# Altium footprint library Librairie_ctrl_lumiere.PcbLib: 11 footprints
Each footprint in its own frame and in the unit in brackets; x right, y up, seen from the top. Pads: shape width x height; smd on the part's side, far side on the other; paste and mask are expansions set on the pad; w line width, h text height; cw(c..) or ccw(c..) is an arc to the next point about the centre after c.
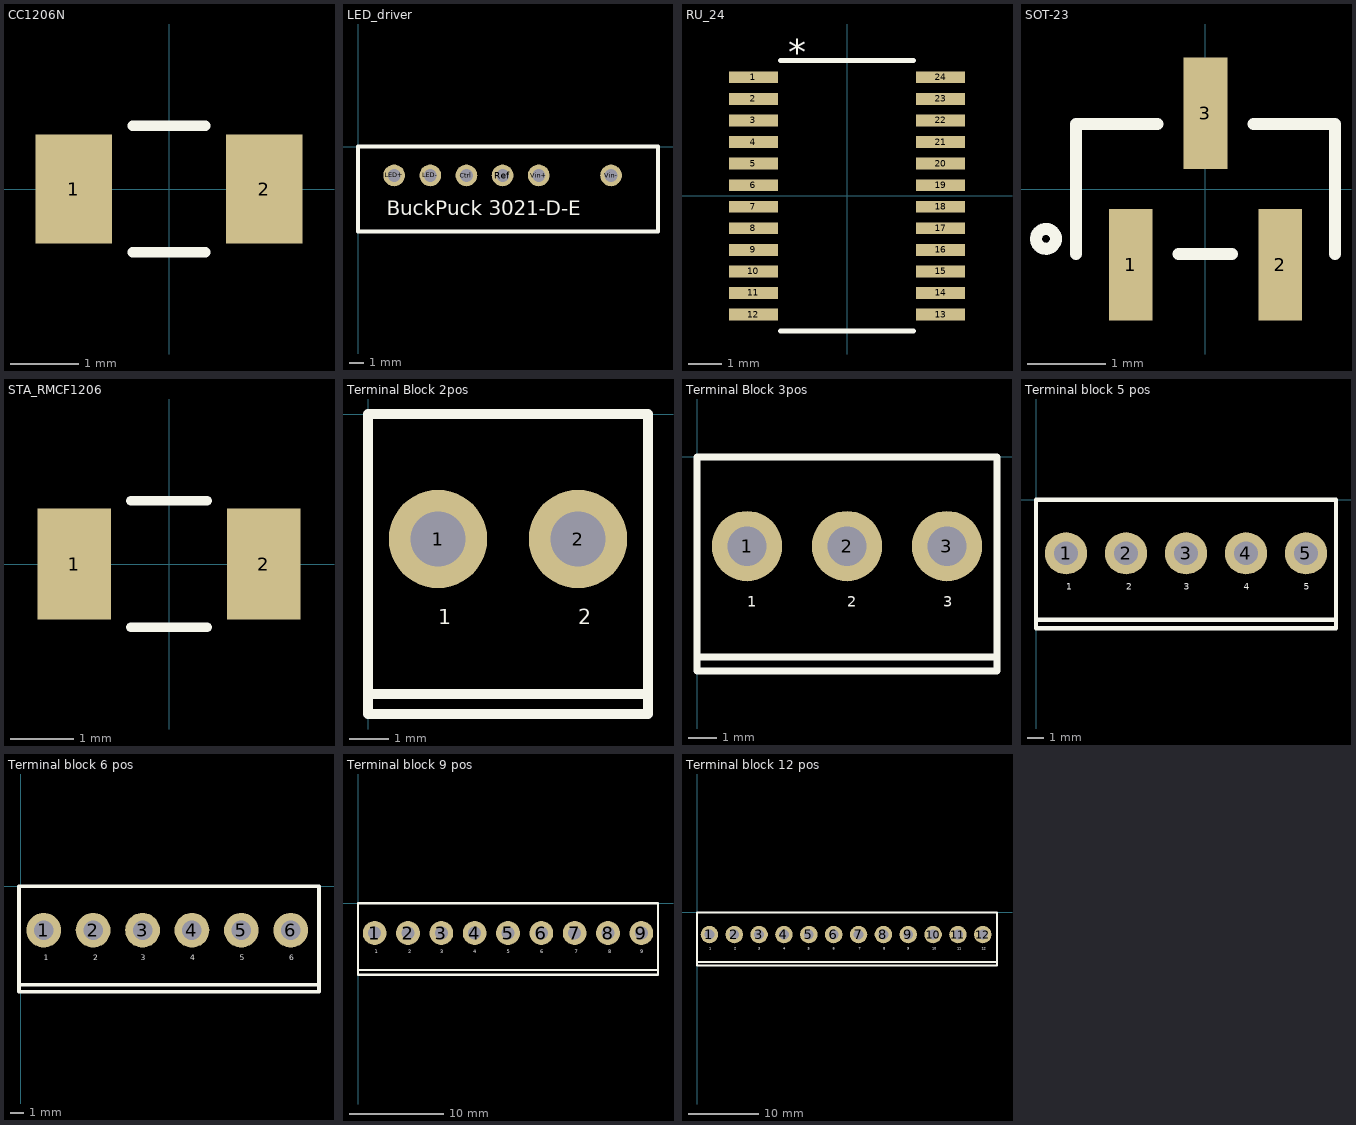
[diagram p0: the footprints below, top view; thin cyan lines are the x and y axes]

## CC1206N [mil]
pads (2):
  rect 44x63 smd paste+0 mask+0: 1(-55,0) 2(55,0)
Top Overlay:
  lines w6: -20.89,-36.5 20.89,-36.5 ; -20.89,36.5 20.89,36.5

## LED_driver [mil] "LED driver"
height 661.42
pads (6):
  round 60 hole 35: Ctrl(300,-80) LED+(100,-80) LED-(200,-80) Ref(400,-80) Vin+(500,-80) Vin-(700,-80)
Top Overlay:
  lines w10: 0,-235 830,-235 830,0 0,0 0,-235
  text "BuckPuck 3021-D-E" at 80,-190 h40

## RU_24 [mil]
pads (24):
  rect 58x14 smd: 1(-111,140.75) 2(-111,115.16) 3(-111,89.57) 4(-111,63.98) 5(-111,38.39) 6(-111,12.8) 7(-111,-12.8) 8(-111,-38.39) 9(-111,-63.98) 10(-111,-89.57) 11(-111,-115.16) 12(-111,-140.75) 13(111,-140.75) 14(111,-115.16) 15(111,-89.57) 16(111,-63.98) 17(111,-38.39) 18(111,-12.8) 19(111,12.8) 20(111,38.39) 21(111,63.98) 22(111,89.57) 23(111,115.16) 24(111,140.75)
Top Overlay:
  lines w6: -79,-160.5 79,-160.5 ; -79,160.5 79,160.5
  text "*" at -70,155 h31.25

## SOT-23 [mil]
pads (3):
  rect 22x56 smd: 1(-37.5,-38) 2(37.5,-38) 3(0,38)
Top Overlay:
  circle w6: c-80,-25 r5
  lines w6: -65,-32.5 -65,32.5 -24.1,32.5 ; -13.4,-32.5 13.4,-32.5 ; 24.1,32.5 65,32.5 65,-32.5

## STA_RMCF1206 [mil]
pads (2):
  rect 46x69 smd paste+0 mask+0: 1(-59,0) 2(59,0)
Top Overlay:
  lines w6: -23.89,-39.5 23.89,-39.5 ; -23.89,39.5 23.89,39.5
Mechanical 13:
  circle w0: c-54,0 r3

## Terminal Block 2pos [mm]
height 0.234
pads (2):
  round 2.5 hole 1.4: 1(1.778,-3.175) 2(5.334,-3.175)
Top Overlay:
  lines w0.254: 0,-7.112 7.112,-7.112 ; 0,-7.62 0,0 1.778,0 7.112,0 7.112,-7.62 0,-7.62
  text "1" at 1.778,-5.334 h0.38
  text "2" at 5.334,-5.334 h0.38

## Terminal Block 3pos [mm]
pads (3):
  round 2.5 hole 1.4: 1(1.778,-3.175) 2(5.334,-3.175) 3(8.89,-3.175)
Top Overlay:
  lines w0.254: 0,-7.112 10.668,-7.112 ; 0,-7.62 0,0 1.778,0 10.668,0 10.668,-7.62 0,-7.62
  text "1" at 1.778,-5.334 h0.38
  text "2" at 5.334,-5.334 h0.38
  text "3" at 8.763,-5.334 h0.38

## Terminal block 5 pos [mm]
pads (5):
  round 2.5 hole 1.4: 1(1.778,-3.175) 2(5.334,-3.175) 3(8.89,-3.175) 4(12.446,-3.175) 5(16.002,-3.175)
Top Overlay:
  lines w0.254: 0,-7.112 17.78,-7.112 ; 0,-7.62 0,0 1.778,0 17.78,0 17.78,-7.62 0,-7.62
  text "1" at 1.778,-5.334 h0.38
  text "2" at 5.334,-5.334 h0.38
  text "3" at 8.763,-5.334 h0.38
  text "4" at 12.319,-5.334 h0.38
  text "5" at 15.875,-5.334 h0.38

## Terminal block 6 pos [mm]
pads (6):
  round 2.5 hole 1.4: 1(1.651,-3.175) 2(5.207,-3.175) 3(8.763,-3.175) 4(12.319,-3.175) 5(15.875,-3.175) 6(19.431,-3.175)
Top Overlay:
  lines w0.254: -0.127,-7.112 21.463,-7.112 ; -0.127,-7.62 21.463,-7.62 21.463,0 1.651,0 -0.127,0 -0.127,-7.62
  text "6" at 19.304,-5.334 h0.38
  text "5" at 15.748,-5.334 h0.38
  text "4" at 12.192,-5.334 h0.38
  text "3" at 8.636,-5.334 h0.38
  text "2" at 5.207,-5.334 h0.38
  text "1" at 1.651,-5.334 h0.38

## Terminal block 9 pos [mil]
pads (9):
  round 100 hole 55: 1(70,-125) 2(210,-125) 3(350,-125) 4(490,-125) 5(630,-125) 6(770,-125) 7(910,-125) 8(1050,-125) 9(1190,-125)
Top Overlay:
  lines w10: 0,-280 1260,-280 ; 0,-300 1260,-300 1260,0 70,0 0,0 0,-300
  text "7" at 910,-210 h15
  text "8" at 1050,-210 h15
  text "9" at 1185,-210 h15
  text "6" at 765,-210 h15
  text "5" at 625,-210 h15
  text "4" at 485,-210 h15
  text "3" at 345,-210 h15
  text "2" at 210,-210 h15
  text "1" at 70,-210 h15

## Terminal block 12 pos [mm]
pads (12):
  round 2.5 hole 1.4: 1(1.778,-3.175) 2(5.334,-3.175) 3(8.89,-3.175) 4(12.446,-3.175) 5(16.002,-3.175) 6(19.558,-3.175) 7(23.114,-3.175) 8(26.67,-3.175) 9(30.226,-3.175) 10(33.782,-3.175) 11(37.338,-3.175) 12(40.894,-3.175)
Top Overlay:
  lines w0.254: 0,-7.112 42.926,-7.112 ; 0,-7.62 0,0 1.778,0 42.926,0 42.926,-7.62 0,-7.62
  text "1" at 1.778,-5.334 h0.38
  text "2" at 5.334,-5.334 h0.38
  text "3" at 8.763,-5.334 h0.38
  text "4" at 12.319,-5.334 h0.38
  text "5" at 15.875,-5.334 h0.38
  text "6" at 19.431,-5.334 h0.38
  text "12" at 40.767,-5.334 h0.38
  text "11" at 37.211,-5.334 h0.38
  text "10" at 33.655,-5.334 h0.38
  text "9" at 30.099,-5.334 h0.38
  text "8" at 26.67,-5.334 h0.38
  text "7" at 23.114,-5.334 h0.38